# Altium schematic symbol library terminal_blocks.SchLib: 1 symbol
Pins are listed as number, name and electrical type; pins without a type are passive.

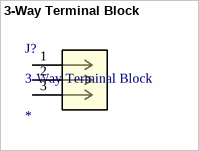
[diagram p0: symbol 3-Way Terminal Block]

## 3-Way Terminal Block
designator J?
3-way wire to board terminal block; Part Number: *; Manufacturer: *; Value: *
footprint TERMINAL_BLOCK_2.5MM_3WAY (Terminal block 2.5mm 3way)
footprint TERMINAL_BLOCK_5mm_3way (Terminal block 5mm 3way)
pins: 1, 2, 3